# Altium schematic symbol library Oxy_Lib.SchLib: 19 symbols
Pins are listed as number, name and electrical type; pins without a type are passive.

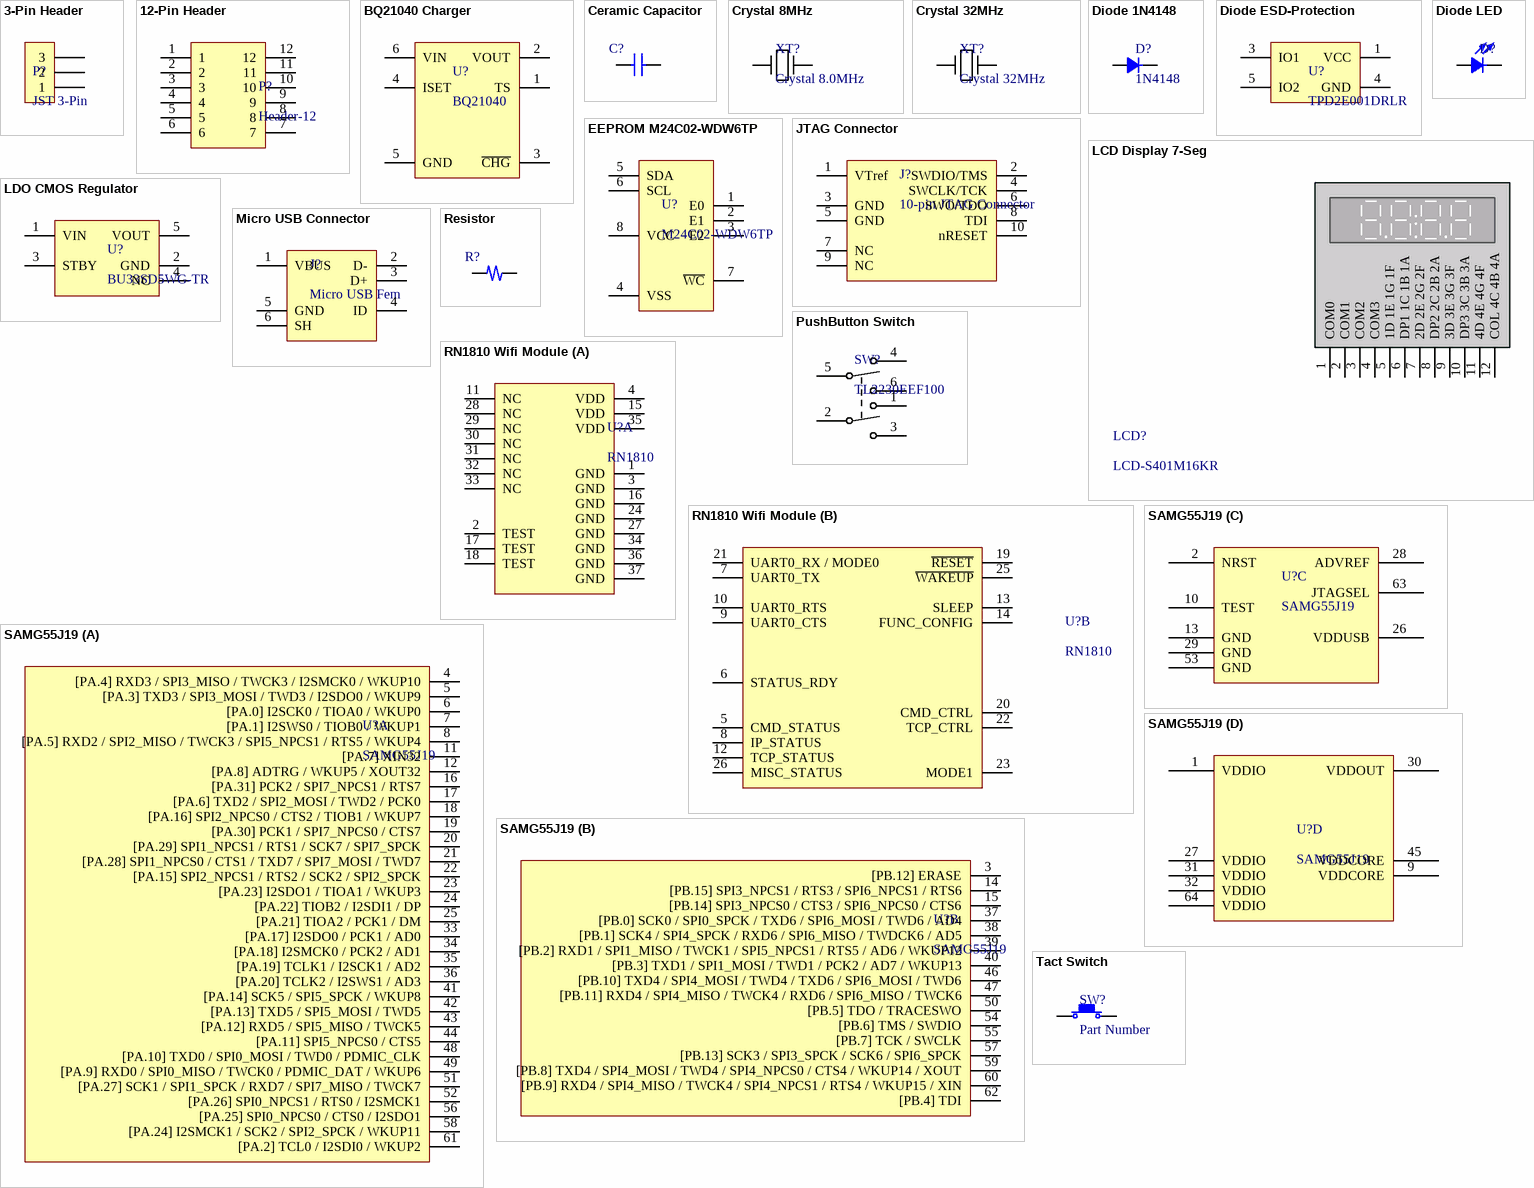
[diagram p0: symbols 3-Pin Header to Tact Switch]

## 3-Pin Header
designator P?, comment JST 3-Pin
JST Right Angle Connector THD 3-Pin PN: PRT-09750
footprint BATT CONNECTOR
pins: 1, 2, 3

## 12-Pin Header
designator P?, comment Header-12
Board to Board & Mezzanine Connector 0.8 BtB Molex PN: 53307-1271
footprint HEADER 12
pins: 1, 2, 3, 4, 5, 6, 7, 8, 9, 10, 11, 12

## BQ21040 Charger
designator U?, comment BQ21040
BQ21040 0.8A Sigle Cell Li-Ion Battery Charger SOT-23
footprint SOT-23 (6)
pins: 1 TS, 2 VOUT, 3 ~{CHG}, 4 ISET, 5 GND, 6 VIN

## Ceramic Capacitor
designator C?  (value not drawn)
Ceramic Capacitor SMD 0402
footprint C_0402 (Ceramic Capacitor SMD 0402)
pins: 1, 2

## Crystal 8MHz
designator XT?, comment Crystal 8.0MHz
Crystal Oscillator 8.0MHz 20ppm 18pF PN: ABM7-8.000MHZ-D2Y-T
footprint CRYSTAL_8
pins: 1 IN, 2 OUT

## Crystal 32MHz
designator XT?
Crystal Oscillator 32.768KHz 20ppm 7.0 pF PN: FC-135 32.7680KA-AG0
footprint FC-135
pins: 1 IN, 2 OUT

## Diode 1N4148
designator D?, comment 1N4148
Diode 1N4148 SMD SOD523
footprint SOD523
pins: 1, 2

## Diode ESD-Protection
designator U?, comment TPD2E001DRLR
Low-Capacitance 2-Ch ESD-Protection for High-Speed Data Interfaces, SOT5
footprint TPD2E001
pins: 1 VCC, 3 IO1, 4 GND, 5 IO2

## Diode LED
designator D?  (value not drawn)
LED Diode SMD 0402
footprint L_0402
pins: 1, 2

## EEPROM M24C02-WDW6TP
designator U?, comment M24C02-WDW6TP
M24C02-WDW6TP 2.5-5V 2Kbit Serial I2C Bus EEPROM
footprint TSSOP-8
pins: 1 E0, 2 E1, 3 E2, 4 VSS, 5 SDA, 6 SCL, 7 ~{WC}, 8 VCC

## JTAG Connector
designator J?, comment 10-pin JTAG Connector
JTAG Connector Micro Terminal Strip .050" 10pin 2row
footprint JTAG HEADER
pins: 1 VTref, 2 SWDIO/TMS, 3 GND, 4 SWCLK/TCK, 5 GND, 6 SWO/TDO, 7 NC, 8 TDI, 9 NC, 10 nRESET

## LCD Display 7-Seg
designator LCD?, comment LCD-S401M16KR
Lumex LCD Numeric Display 7-Seg 4 Digit S401M16KR
footprint 7 SEG
pins: 1 COM0, 2 COM1, 3 COM2, 4 COM3, 5 1D 1E 1G 1F, 6 DP1 1C 1B 1A, 7 2D 2E 2G 2F, 8 DP2 2C 2B 2A, 9 3D 3E 3G 3F, 10 DP3 3C 3B 3A, 11 4D 4E 4G 4F, 12 COL 4C 4B 4A

## LDO CMOS Regulator
designator U?, comment BU33SD5WG-TR
LDO Voltage Regulator 1ch 500mA CMOS SSOP5
footprint SSOP5
pins: 1 VIN, 2 GND, 3 STBY, 4 NC, 5 VOUT

## Micro USB Connector
designator J?, comment Micro USB Fem
Micro-USB 2.0 AB Receptacle, Right Angle, Part Number 47590-0001
footprint Micro USB
pins: 1 VBUS, 2 D-, 3 D+, 4 ID, 5 GND, 6 SH

## PushButton Switch
designator SW?, comment TL2230EEF100
PushButton Switch Latching THD TL2230EEF100
footprint TL2230
pins: 1, 2, 3, 4, 5, 6

## Resistor
designator R?  (value not drawn)
Resistor SMD 0402
footprint R_0402 (Resistor SMD 0402)
pins: 1, 2

## RN1810 Wifi Module
designator U?, comment RN1810
2.4 GHz IEEE 802.11b/g/n Wireless Module RN1810
footprint RN1810
part A pins: 1 GND, 2 TEST, 3 GND, 4 VDD, 11 NC, 15 VDD, 16 GND, 17 TEST, 18 TEST, 24 GND, 27 GND, 28 NC, 29 NC, 30 NC, 31 NC, 32 NC, 33 NC, 34 GND, 35 VDD, 36 GND, 37 GND
part B pins: 5 CMD_STATUS, 6 STATUS_RDY, 7 UART0_TX, 8 IP_STATUS, 9 UART0_CTS, 10 UART0_RTS, 12 TCP_STATUS, 13 SLEEP, 14 FUNC_CONFIG, 19 ~{RESET}, 20 CMD_CTRL, 21 UART0_RX / MODE0, 22 TCP_CTRL, 23 MODE1, 25 ~{WAKEUP}, 26 MISC_STATUS

## SAMG55J19
designator U?
Atmel SMART SAM G55 Cortex M4 32-bit 64-lead LQFP
footprint LQFP 64
part A pins: 4 [PA.4] RXD3 / SPI3_MISO / TWCK3 / I2SMCK0 / WKUP10, 5 [PA.3] TXD3 / SPI3_MOSI / TWD3 / I2SDO0 / WKUP9, 6 [PA.0] I2SCK0 / TIOA0 / WKUP0, 7 [PA.1] I2SWS0 / TIOB0 / WKUP1, 8 [PA.5] RXD2 / SPI2_MISO / TWCK3 / SPI5_NPCS1 / RTS5 / WKUP4, 11 [PA.7] XIN32, 12 [PA.8] ADTRG / WKUP5 / XOUT32, 16 [PA.31] PCK2 / SPI7_NPCS1 / RTS7, 17 [PA.6] TXD2 / SPI2_MOSI / TWD2 / PCK0, 18 [PA.16] SPI2_NPCS0 / CTS2 / TIOB1 / WKUP7, 19 [PA.30] PCK1 / SPI7_NPCS0 / CTS7, 20 [PA.29] SPI1_NPCS1 / RTS1 / SCK7 / SPI7_SPCK, 21 [PA.28] SPI1_NPCS0 / CTS1 / TXD7 / SPI7_MOSI / TWD7, 22 [PA.15] SPI2_NPCS1 / RTS2 / SCK2 / SPI2_SPCK, 23 [PA.23] I2SDO1 / TIOA1 / WKUP3, 24 [PA.22] TIOB2 / I2SDI1 / DP, 25 [PA.21] TIOA2 / PCK1 / DM, 33 [PA.17] I2SDO0 / PCK1 / AD0, 34 [PA.18] I2SMCK0 / PCK2 / AD1, 35 [PA.19] TCLK1 / I2SCK1 / AD2, 36 [PA.20] TCLK2 / I2SWS1 / AD3, 41 [PA.14] SCK5 / SPI5_SPCK / WKUP8, 42 [PA.13] TXD5 / SPI5_MOSI / TWD5, 43 [PA.12] RXD5 / SPI5_MISO / TWCK5, 44 [PA.11] SPI5_NPCS0 / CTS5, 48 [PA.10] TXD0 / SPI0_MOSI / TWD0 / PDMIC_CLK, 49 [PA.9] RXD0 / SPI0_MISO / TWCK0 / PDMIC_DAT / WKUP6, 51 [PA.27] SCK1 / SPI1_SPCK / RXD7 / SPI7_MISO / TWCK7, 52 [PA.26] SPI0_NPCS1 / RTS0 / I2SMCK1, 56 [PA.25] SPI0_NPCS0 / CTS0 / I2SDO1, 58 [PA.24] I2SMCK1 / SCK2 / SPI2_SPCK / WKUP11, 61 [PA.2] TCL0 / I2SDI0 / WKUP2
part B pins: 3 [PB.12] ERASE, 14 [PB.15] SPI3_NPCS1 / RTS3 / SPI6_NPCS1 / RTS6, 15 [PB.14] SPI3_NPCS0 / CTS3 / SPI6_NPCS0 / CTS6, 37 [PB.0] SCK0 / SPI0_SPCK / TXD6 / SPI6_MOSI / TWD6 / AD4, 38 [PB.1] SCK4 / SPI4_SPCK / RXD6 / SPI6_MISO / TWDCK6 / AD5, 39 [PB.2] RXD1 / SPI1_MISO / TWCK1 / SPI5_NPCS1 / RTS5 / AD6 / WKUP12, 40 [PB.3] TXD1 / SPI1_MOSI / TWD1 / PCK2 / AD7 / WKUP13, 46 [PB.10] TXD4 / SPI4_MOSI / TWD4 / TXD6 / SPI6_MOSI / TWD6, 47 [PB.11] RXD4 / SPI4_MISO / TWCK4 / RXD6 / SPI6_MISO / TWCK6, 50 [PB.5] TDO / TRACESWO, 54 [PB.6] TMS / SWDIO, 55 [PB.7] TCK / SWCLK, 57 [PB.13] SCK3 / SPI3_SPCK / SCK6 / SPI6_SPCK, 59 [PB.8] TXD4 / SPI4_MOSI / TWD4 / SPI4_NPCS0 / CTS4 / WKUP14 / XOUT, 60 [PB.9] RXD4 / SPI4_MISO / TWCK4 / SPI4_NPCS1 / RTS4 / WKUP15 / XIN, 62 [PB.4] TDI
part C pins: 2 NRST, 10 TEST, 13 GND, 26 VDDUSB, 28 ADVREF, 29 GND, 53 GND, 63 JTAGSEL
part D pins: 1 VDDIO, 9 VDDCORE, 27 VDDIO, 30 VDDOUT, 31 VDDIO, 32 VDDIO, 45 VDDCORE, 64 VDDIO

## Tact Switch
designator SW?, comment Part Number
Tact Switch
footprint TACT SWITCH
pins: 1, 2